# EAGLE library part SMF05C (library pixel_masterlib)
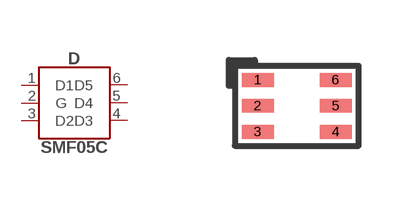
[diagram p9: symbol with the pads of SC70_6L; footprint SC70_6L]

Designator prefix D

## SMF05C (CHIPDIP#: 9000048448; DIGIKEY#: SMF05CCT-ND; FARNELL#: 2059033; MANF: Semtech Corporation; MANF#: SMF05C.TCT; TME#: SMF05CT1G)  [SC70_6L]
1  D1
2  G
3  D2
4  D3
5  D4
6  D5

## Footprint SC70_6L (pad centres in mm)
smd 0.8 x 0.35: 1 -0.975,0.65; 2 -0.975,0; 3 -0.975,-0.65; 4 0.975,-0.65; 5 0.975,0; 6 0.975,0.65